# Altium footprint library BH-xx.PcbLib: 11 footprints
Each footprint in its own frame and in the unit in brackets; x right, y up, seen from the top. Pads: shape width x height; smd on the part's side, far side on the other; paste and mask are expansions set on the pad; w line width, h text height; cw(c..) or ccw(c..) is an arc to the next point about the centre after c.
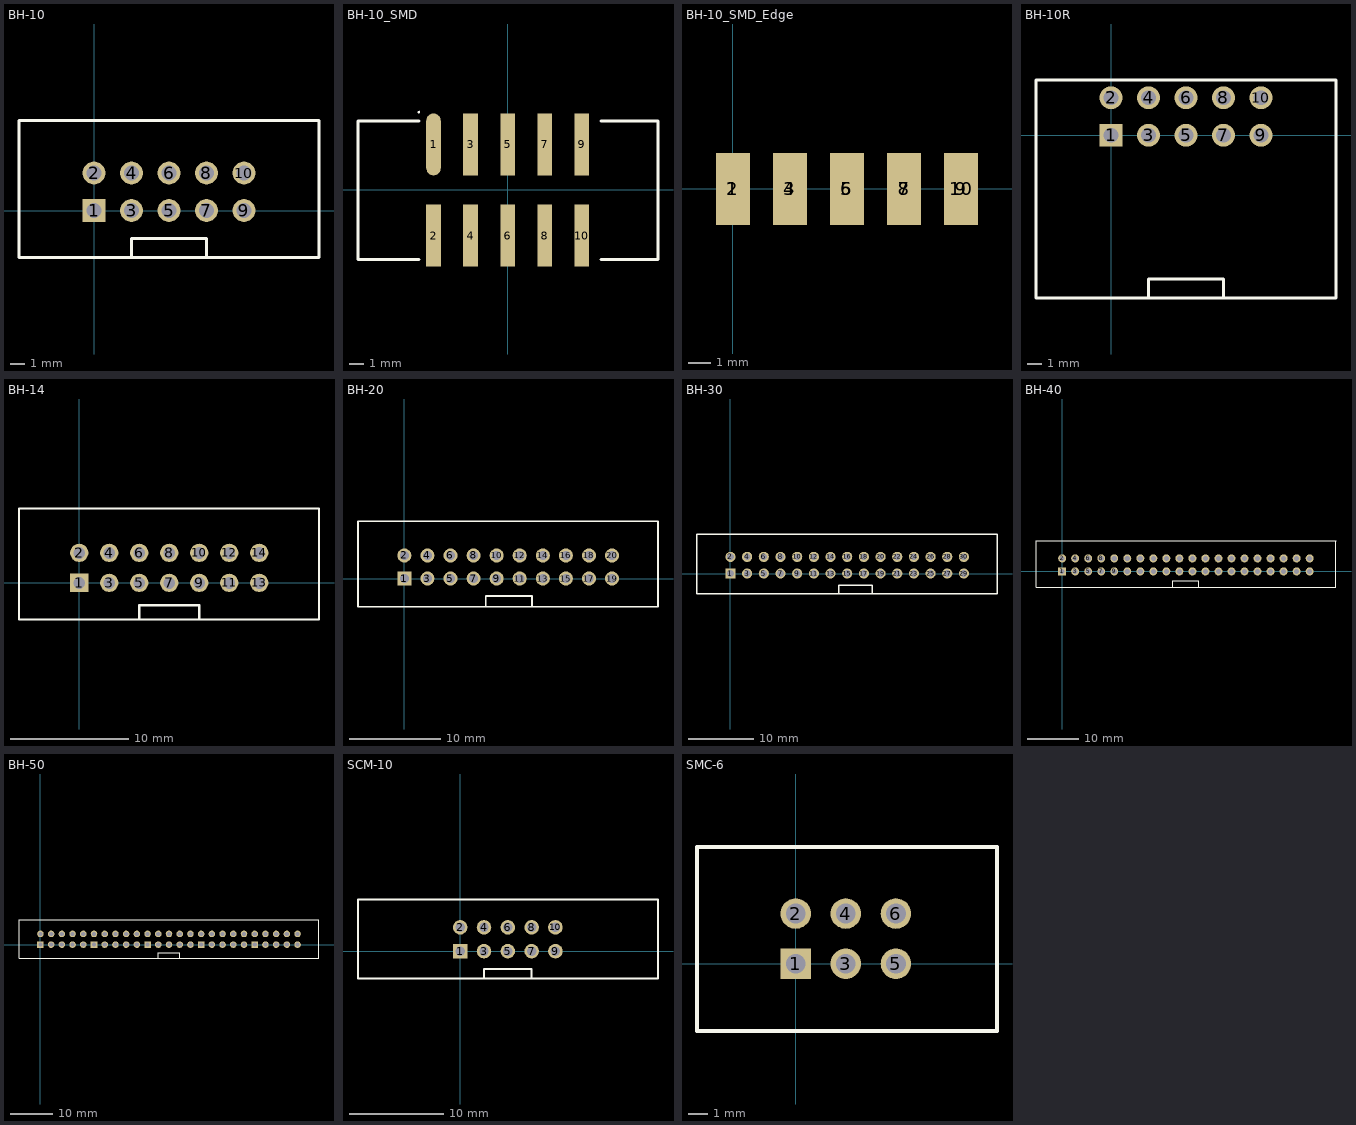
[diagram p0: the footprints below, top view; thin cyan lines are the x and y axes]

## BH-10 [mm]
pads (10):
  rect 1.55x1.55 hole 1: 1(0,0)
  round 1.55 hole 1: 2(0,2.54) 3(2.54,0) 4(2.54,2.54) 5(5.08,0) 6(5.08,2.54) 7(7.62,0) 8(7.62,2.54) 9(10.16,0) 10(10.16,2.54)
Top Overlay:
  lines w0.2: 2.54,-3.175 2.54,-1.905 7.62,-1.905 7.62,-3.175 ; -5.08,-3.175 15.24,-3.175 15.24,6.096 -5.08,6.096 -5.08,-3.175
3D body: height 9.14, standoff -3, extent -5.1,-3.175 15.26,6.025

## BH-10_SMD [mm]
pads (10):
  oval 1x4.25 smd: 1(-5.1,3.1)
  rect 1x4.25 smd: 2(-5.1,-3.15) 3(-2.56,3.1) 4(-2.56,-3.15) 5(-0.02,3.1) 6(-0.02,-3.15) 7(2.52,3.1) 8(2.52,-3.15) 9(5.06,3.1) 10(5.06,-3.15)
Top Overlay:
  circle w0.1: c-6.112,5.312 r0.05
  lines w0.2: -6.104,-4.8 -10.28,-4.8 -10.28,4.696 -6.104,4.696 ; 6.404,-4.8 10.3,-4.8 10.3,4.696 6.404,4.696
3D body: height 10.42, standoff 0, extent -10.16,-4.8 10.16,4.7

## BH-10_SMD_Edge [mm]
pads (10):
  rect 1.5x3.2 smd: 1(0,0) 3(2.54,0) 5(5.08,0) 7(7.62,0) 9(10.16,0)
  rect 1.5x3.2 smd far side: 2(0,0) 4(2.54,0) 6(5.08,0) 8(7.62,0) 10(10.16,0)
3D body: height 3.64, standoff -5.57, extent -5.055,-1.4 15.305,10.742

## BH-10R [mm]
pads (10):
  rect 1.55x1.55 hole 1: 1(0,0)
  round 1.55 hole 1: 2(0,2.54) 3(2.54,0) 4(2.54,2.54) 5(5.08,0) 6(5.08,2.54) 7(7.62,0) 8(7.62,2.54) 9(10.16,0) 10(10.16,2.54)
Top Overlay:
  lines w0.2: 2.534,-11.011 2.534,-9.741 7.614,-9.741 7.614,-11.011 ; 15.234,-11.011 -5.079,-11.011 -5.08,-11.01 -5.08,3.732 15.24,3.732 15.24,-11
3D body: height 9.35, standoff -2.4, extent -5.2,-11.04 15.2,2.84

## BH-14 [mm]
pads (14):
  rect 1.55x1.55 hole 1: 1(0,0)
  round 1.55 hole 1: 2(0,2.54) 3(2.54,0) 4(2.54,2.54) 5(5.08,0) 6(5.08,2.54) 7(7.62,0) 8(7.62,2.54) 9(10.16,0) 10(10.16,2.54) 11(12.7,0) 12(12.7,2.54) 13(15.24,0) 14(15.24,2.54)
Top Overlay:
  lines w0.2: 5.08,-3.1 5.08,-1.905 10.16,-1.905 10.16,-3.1 ; -5.1,-3.1 20.3,-3.1 20.3,6.3 -5.1,6.3 -5.1,-3.1
3D body: height 9.45, standoff -3.25, extent -5.1,-3.05 20.3,6.3

## BH-20 [mm]
pads (20):
  rect 1.55x1.55 hole 1: 1(0,0)
  round 1.55 hole 1: 2(0,2.54) 3(2.54,0) 4(2.54,2.54) 5(5.08,0) 6(5.08,2.54) 7(7.62,0) 8(7.62,2.54) 9(10.16,0) 10(10.16,2.54) 11(12.7,0) 12(12.7,2.54) 13(15.24,0) 14(15.24,2.54) 15(17.78,0) 16(17.78,2.54) 17(20.32,0) 18(20.32,2.54) 19(22.86,0) 20(22.86,2.54)
Top Overlay:
  lines w0.2: 8.96,-3.1 8.96,-1.905 14.04,-1.905 14.04,-3.1 ; -5.1,-3.1 -5.1,6.3 27.92,6.3 27.92,-3.1 -5.1,-3.1
3D body: height 8.75, standoff -3.1, extent -5.11,-3.1 27.91,6

## BH-30 [mm]
pads (30):
  rect 1.55x1.55 hole 1: 1(0,0)
  round 1.55 hole 1: 2(0,2.54) 3(2.54,0) 4(2.54,2.54) 5(5.08,0) 6(5.08,2.54) 7(7.62,0) 8(7.62,2.54) 9(10.16,0) 10(10.16,2.54) 11(12.7,0) 12(12.7,2.54) 13(15.24,0) 14(15.24,2.54) 15(17.78,0) 16(17.78,2.54) 17(20.32,0) 18(20.32,2.54) 19(22.86,0) 20(22.86,2.54) 21(25.4,0) 22(25.4,2.54) 23(27.94,0) 24(27.94,2.54) 25(30.48,0) 26(30.48,2.54) 27(33.02,0) 28(33.02,2.54) 29(35.56,0) 30(35.56,2.54)
Top Overlay:
  lines w0.2: 16.48,-3 16.48,-1.805 21.56,-1.805 21.56,-3 ; -5.1,-3.1 -5.1,6 40.6,6 40.6,-3.1 -5.1,-3.1
3D body: height 8.9, standoff -3.5, extent -5.1,-3 40.6,6

## BH-40 [mm]
pads (40):
  rect 1.55x1.55 hole 1: 1(0,0)
  round 1.55 hole 1: 2(0,2.54) 3(2.54,0) 4(2.54,2.54) 5(5.08,0) 6(5.08,2.54) 7(7.62,0) 8(7.62,2.54) 9(10.16,0) 10(10.16,2.54) 11(12.7,0) 12(12.7,2.54) 13(15.24,0) 14(15.24,2.54) 15(17.78,0) 16(17.78,2.54) 17(20.32,0) 18(20.32,2.54) 19(22.86,0) 20(22.86,2.54) 21(25.4,0) 22(25.4,2.54) 23(27.94,0) 24(27.94,2.54) 25(30.48,0) 26(30.48,2.54) 27(33.02,0) 28(33.02,2.54) 29(35.56,0) 30(35.56,2.54) 31(38.1,0) 32(38.1,2.54) 33(40.64,0) 34(40.64,2.54) 35(43.18,0) 36(43.18,2.54) 37(45.72,0) 38(45.72,2.54) 39(48.26,0) 40(48.26,2.54)
Top Overlay:
  lines w0.2: 21.56,-3 21.56,-1.805 26.64,-1.805 26.64,-3 ; 53.36,6 53.36,-3.1 -5.1,-3.1 -5.1,6 53.4,6
3D body: height 9.14, standoff -3, extent -5.1,-3.2 53.36,6

## BH-50 [mm]
pads (50):
  rect 1.55x1.55 hole 1: 1(0,0) 11(12.7,0) 21(25.4,0) 31(38.1,0) 41(50.8,0)
  round 1.55 hole 1: 2(0,2.54) 3(2.54,0) 4(2.54,2.54) 5(5.08,0) 6(5.08,2.54) 7(7.62,0) 8(7.62,2.54) 9(10.16,0) 10(10.16,2.54) 12(12.7,2.54) 13(15.24,0) 14(15.24,2.54) 15(17.78,0) 16(17.78,2.54) 17(20.32,0) 18(20.32,2.54) 19(22.86,0) 20(22.86,2.54) 22(25.4,2.54) 23(27.94,0) 24(27.94,2.54) 25(30.48,0) 26(30.48,2.54) 27(33.02,0) 28(33.02,2.54) 29(35.56,0) 30(35.56,2.54) 32(38.1,2.54) 33(40.64,0) 34(40.64,2.54) 35(43.18,0) 36(43.18,2.54) 37(45.72,0) 38(45.72,2.54) 39(48.26,0) 40(48.26,2.54) 42(50.8,2.54) 43(53.34,0) 44(53.34,2.54) 45(55.88,0) 46(55.88,2.54) 47(58.42,0) 48(58.42,2.54) 49(60.96,0) 50(60.96,2.54)
Top Overlay:
  lines w0.2: 27.94,-3.175 27.94,-1.905 33.02,-1.905 33.02,-3.175
  lines w0.254: -5.08,-3.175 66.04,-3.175 66.04,5.842 -5.08,5.842 -5.08,2.667 -5.08,0 -5.08,-3.175
3D body: height 9.1, standoff -3, extent -5.17,-3.28 66.13,6.02

## SCM-10 [mm] "with lock"
pads (10):
  rect 1.55x1.55 hole 1: 1(0,0)
  round 1.55 hole 1: 2(0,2.54) 3(2.54,0) 4(2.54,2.54) 5(5.08,0) 6(5.08,2.54) 7(7.62,0) 8(7.62,2.54) 9(10.16,0) 10(10.16,2.54)
Top Overlay:
  lines w0.2: 2.54,-2.9 2.54,-1.905 7.62,-1.905 7.62,-2.9 ; -10.9,-2.9 21.1,-2.9 21.1,5.5 -10.9,5.5 -10.9,-2.9
3D body: height 26.38, standoff -3.26, extent -10.9,-2.9 21.1,5.482

## SMC-6 [mm] "TE 2-1761713-1"
pads (6):
  rect 1.55x1.55 hole 1: 1(0,0)
  round 1.55 hole 1: 2(0,2.54) 3(2.54,0) 4(2.54,2.54) 5(5.08,0) 6(5.08,2.54)
Top Overlay:
  lines w0.2: -5,-3.4 10.2,-3.4 10.2,5.9 -5,5.9 -5,-3.4
3D body: height 18.79, standoff -4.12, extent -5.02,-4.516 10.22,5.898